# EAGLE library part L96-M33 (library L96-M33)
GPS Receiver 1602.5625MHz 2.7V to 2.9V 31-Pin SMD Check availability <https://pricing.snapeda.com/parts/L96-M33/Quectel/view-part?ref=eda>
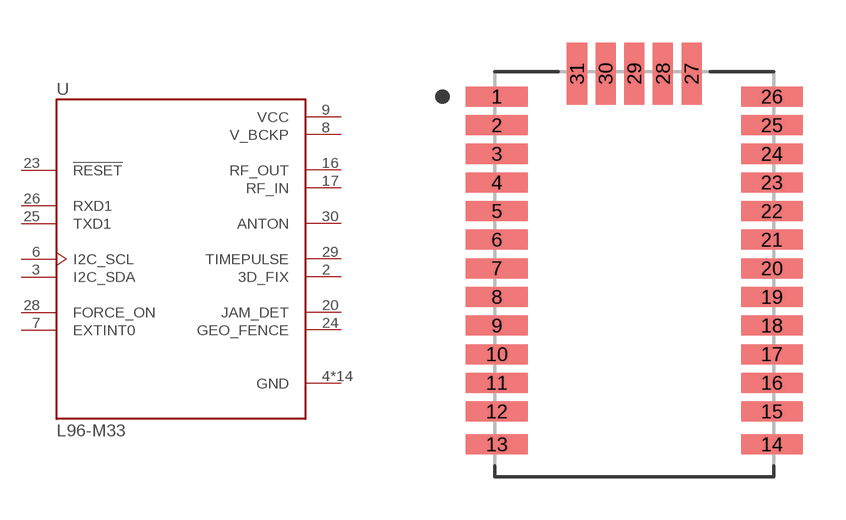
[diagram p0: symbol with the pads of XCVR_L96-M33; footprint XCVR_L96-M33]

Designator prefix U

## L96-M33 (Availability: In Stock; Description: L96 is a concurrent multi-GNSS receiver module with embedded chip antenna. With 33 tracking channels, 99 acquisition channels and 210 PRN channels, L96 supports concurrent reception of up to three GNSS systems (GPS+GLONASS+Galileo); MF: Quectel; MP: L96-M33; Package: SMD-31 Quectel; Price: None; Purchase-URL: https://pricing.snapeda.com/search/part/L96-M33/?ref=eda)  [XCVR_L96-M33]
2  3D_FIX  out
3  I2C_SDA
4  GND  pwr
5  GND  pwr
6  I2C_SCL
7  EXTINT0  in
8  V_BCKP  pwr
9  VCC  pwr
10  GND  pwr
11  GND  pwr
12  GND  pwr
13  GND  pwr
14  GND  pwr
15  GND  pwr
16  RF_OUT  out
17  RF_IN  in
18  GND  pwr
19  GND  pwr
20  JAM_DET  out
21  GND  pwr
22  GND  pwr
23  !RESET  in
24  GEO_FENCE  out
25  TXD1  out
26  RXD1  in
27  GND  pwr
28  FORCE_ON  in
29  TIMEPULSE  out
30  ANTON  out
31  GND  pwr

## Footprint XCVR_L96-M33 (pad centres in mm)
smd 2.15 x 0.7: 1 -4.8,6.2; 2 -4.8,5.2; 3 -4.8,4.2; 4 -4.8,3.2; 5 -4.8,2.2; 6 -4.8,1.2; 7 -4.8,0.2; 8 -4.8,-0.8; 9 -4.8,-1.8; 10 -4.8,-2.8; 11 -4.8,-3.8; 12 -4.8,-4.8; 13 -4.8,-5.95; 14 4.8,-5.95; 15 4.8,-4.8; 16 4.8,-3.8; 17 4.8,-2.8; 18 4.8,-1.8; 19 4.8,-0.8; 20 4.8,0.2; 21 4.8,1.2; 22 4.8,2.2; 23 4.8,3.2; 24 4.8,4.2; 25 4.8,5.2; 26 4.8,6.2
smd 0.7 x 2.15: 27 2,7; 28 1,7; 29 0,7; 30 -1,7; 31 -2,7